# Altium footprint library DTF15-12P_Full.PcbLib: 1 footprints
Each footprint in its own frame and in the unit in brackets; x right, y up, seen from the top. Pads: shape width x height; smd on the part's side, far side on the other; paste and mask are expansions set on the pad; w line width, h text height; cw(c..) or ccw(c..) is an arc to the next point about the centre after c.
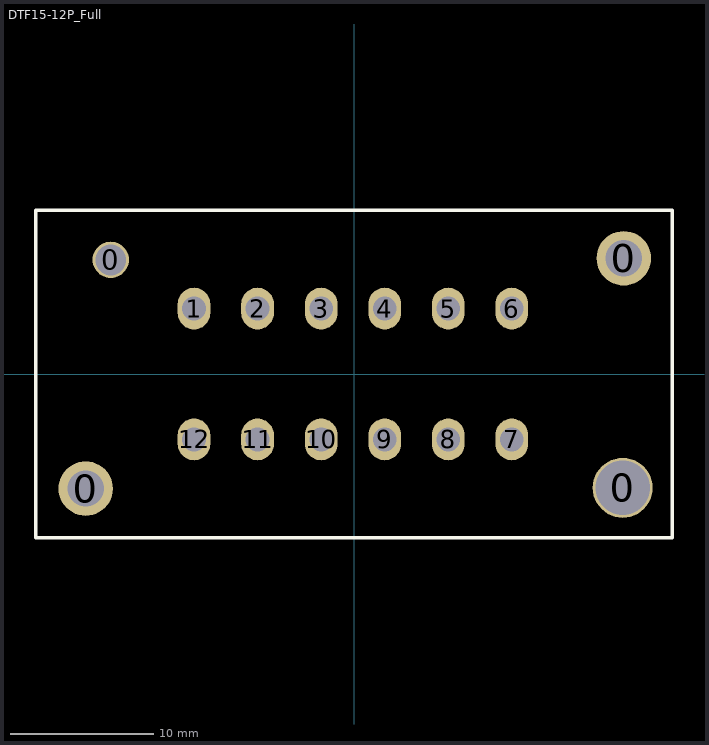
[diagram p0: the footprint, top view; thin cyan lines are the x and y axes]

## DTF15-12P_Full [mil]
pads (16):
  round 150 hole 100: 0(-738,-315) 0(742,318)
  round 100 hole 85: 0(-669,314)
  round 165 hole 150: 0(739,-313)
  oval 90x115 hole 65: 1(-440,180) 2(-265.2,180) 3(-90.4,180) 4(84.4,180) 5(259.2,180) 6(434,180) 7(434,-180) 8(259.2,-180) 9(84.4,-180) 10(-90.4,-180) 11(-265.2,-180) 12(-440,-180)
Top Overlay:
  lines w10: -875,-450 -875,450 875,450 875,-450 -875,-450
3D body: height 182, standoff -1395, extent -867,-438 863,438